# Altium footprint library CMod5_1.PcbLib: 117 footprints (part 3 of 8)
Each footprint in its own frame and in the unit in brackets; x right, y up, seen from the top. Pads: shape width x height; smd on the part's side, far side on the other; paste and mask are expansions set on the pad; w line width, h text height; cw(c..) or ccw(c..) is an arc to the next point about the centre after c.
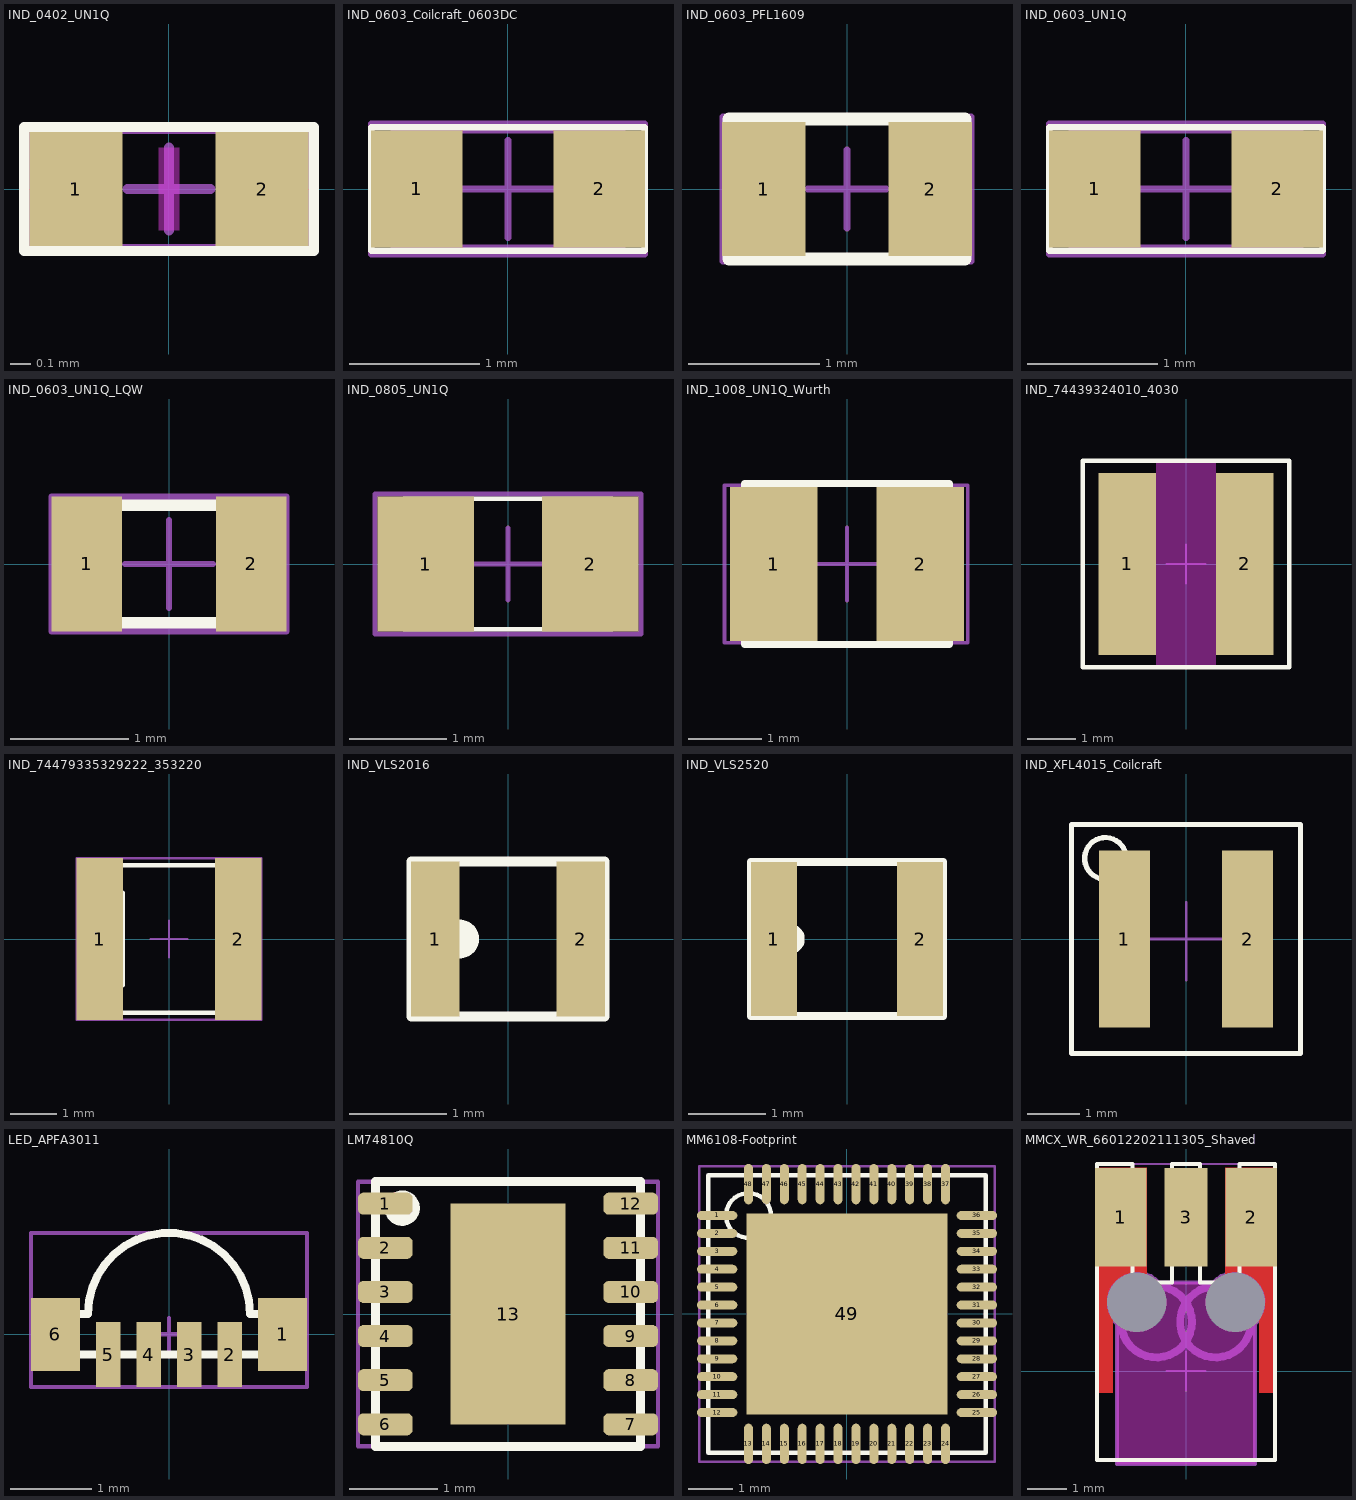
[diagram p2: the footprints below, top view; thin cyan lines are the x and y axes]

## IND_0402_UN1Q [mm] "Chip Resistor, 1.0x0.5mm"
height 0.4
pads (2):
  rect 0.45x0.55 smd paste+0 mask+0.05: 1(-0.45,0) 2(0.45,0)
Top Layer keep-out:
  rectangle: -0.05,-0.2 0.05,0.2
Top Overlay:
  lines w0.05: -0.7,-0.3 0.7,-0.3 0.7,0.3 -0.7,0.3 -0.7,-0.3
Top Courtyard:
  lines w0.02: -0.675,-0.275 -0.675,0.275 0.675,0.275 0.675,-0.275 -0.675,-0.275
  lines w0.05: -0.2,0 0.2,0 ; 0,-0.2 0,0.2
Top Designator:
3D body "AIMC-0402-3N9S-T.STEP": height 0.5, standoff 0, extent -0.5,-0.25 0.5,0.25

## IND_0603_Coilcraft_0603DC [mm] "Chip Inductor, 1.6x0.8mm"
height 0.9
pads (2):
  rect 0.7x0.9 smd mask+0.07: 1(-0.7,0) 2(0.7,0)
Top Overlay:
  lines w0.05: -1.05,-0.475 1.05,-0.475 1.05,0.475 -1.05,0.475 -1.05,-0.475
Top 3D Body:
  lines w0.1: -0.85,-0.475 0.85,-0.475 0.85,0.475 -0.85,0.475 -0.85,-0.475
Top Courtyard:
  lines w0.05: -0.375,0 0.375,0 ; 0,-0.375 0,0.375 ; -1.05,-0.5 1.05,-0.5 1.05,0.5 -1.05,0.5 -1.05,-0.5
Top Designator:
3D body "Coilcraft-0603DC.step": height 0.89, standoff 0, extent -0.81,-0.365 0.81,0.365

## IND_0603_PFL1609 [mm]
height 0.95
pads (2):
  rect 0.64x1.02 smd paste+0 mask+0.05: 1(-0.635,0) 2(0.635,0)
Top Overlay:
  lines w0.1: -0.9,-0.535 0.9,-0.535 0.9,0.535 -0.9,0.535 -0.9,-0.535
Top Courtyard:
  lines w0.05: -0.3,0 0.3,0 ; 0,-0.3 0,0.3 ; -0.95,-0.55 0.95,-0.55 0.95,0.55 -0.95,0.55 -0.95,-0.55
3D body "IND_PFL1609_COC.step": height 0.99, standoff 0, extent -0.902,-0.533 0.902,0.533

## IND_0603_UN1Q [mm] "Chip Inductor, 1.6x0.8mm"
height 0.8
pads (2):
  rect 0.7x0.9 smd mask+0.07: 1(-0.7,0) 2(0.7,0)
Top Overlay:
  lines w0.05: -1.05,-0.475 -1.05,0.475 1.05,0.475 1.05,-0.475 -1.05,-0.475
Top 3D Body:
  lines w0.1: -0.85,-0.475 -0.85,0.475 0.85,0.475 0.85,-0.475 -0.85,-0.475
Top Courtyard:
  lines w0.05: -0.375,0 0.375,0 ; 0,-0.375 0,0.375 ; -1.05,-0.5 -1.05,0.5 1.05,0.5 1.05,-0.5 -1.05,-0.5
Top Designator:
3D body: height 0.6, standoff 0, extent 0.581,-0.474 0.85,0.475
3D body: height 0.8, standoff 0, extent -1.05,-0.475 1.05,0.475
3D body: height 0.6, standoff 0, extent -0.849,-0.474 -0.58,0.475

## IND_0603_UN1Q_LQW [mm] "Chip Inductor, 1.65x0.99mm (1.75x1.09 max)"
height 1
pads (2):
  rect 0.6x1.15 smd mask+0.07: 1(-0.7,0) 2(0.7,0)
Top Overlay:
  lines w0.1: -0.825,-0.5 0.825,-0.5 0.825,0.5 -0.825,0.5 -0.825,-0.5
Top 3D Body:
  lines w0.1: -0.825,-0.5 0.825,-0.5 0.825,0.5 -0.825,0.5 -0.825,-0.5
Top Courtyard:
  lines w0.05: -0.375,0 0.375,0 ; 0,-0.375 0,0.375 ; -1,-0.575 1,-0.575 1,0.575 -1,0.575 -1,-0.575
Top Designator:
3D body: height 0.6, standoff 0, extent -0.849,-0.474 -0.58,0.475
3D body: height 1, standoff 0, extent -0.825,-0.5 0.825,0.5
3D body: height 0.6, standoff 0, extent 0.581,-0.474 0.85,0.475

## IND_0805_UN1Q [mm] "Chip Inductor, 2.10x1.35mm, IPC High Density"
height 1
pads (2):
  rect 1x1.4 smd paste+0 mask+0.05: 1(-0.85,0) 2(0.85,0)
Top Overlay:
  lines w0.05: -1.075,-0.675 1.075,-0.675 1.075,0.675 -1.075,0.675 -1.075,-0.675
Top Courtyard:
  lines w0.05: -0.375,0 0.375,0 ; 0,-0.375 0,0.375 ; -1.375,-0.725 1.375,-0.725 1.375,0.725 -1.375,0.725 -1.375,-0.725
Top Designator:
3D body "LQM21PN1R0NGRD.STEP": height 1.01, standoff 0.01, extent -1,-0.625 1,0.625

## IND_1008_UN1Q_Wurth [mm] "Chip Inductor, 1008"
height 1.2
pads (2):
  rect 1.2x2.1 smd mask+0.05: 1(-1,0) 2(1,0)
Top Overlay:
  lines w0.1: -1.4,-1.1 1.4,-1.1 1.4,1.1 -1.4,1.1 -1.4,-1.1
Top Courtyard:
  lines w0.05: -0.5,0 0.5,0 ; 0,-0.5 0,0.5 ; -1.675,-1.075 -1.675,1.075 1.65,1.075 1.65,-1.075 -1.675,-1.075
Top Designator:
3D body "WE-LQS_252012 (rev1).stp": height 1.21, standoff 0.01, extent -1.25,-1 1.25,1

## IND_74439324010_4030 [mm]
height 3
pads (2):
  rect 1.2x3.8 smd: 1(-1.225,0) 2(1.225,0)
Top Layer keep-out:
  region: -0.625,-2.15 -0.625,2.15 0.625,2.15 0.625,-2.15
Top Overlay:
  lines w0.1: -1.225,-1.7 -1.225,1.7 ; -2.15,-2.15 -2.15,2.15 2.15,2.15 2.15,-2.15 -2.15,-2.15
Top Courtyard:
  lines w0.05: -0.4,0 0.4,0 ; 0,-0.4 0,0.4 ; -2.15,-2.15 -2.15,2.15 2.15,2.15 2.15,-2.15 -2.15,-2.15
Top Designator:
3D body "74439390xxx_4030.stp": height 3.01, standoff 0.01, extent -2.15,-2.15 2.15,2.15

## IND_74479335329222_353220 [mm] "3.5 x 3.2 x 2.0mm"
height 2
pads (2):
  rect 1x3.5 smd paste+0 mask+0.05: 1(-1.5,0) 2(1.5,0)
Top Overlay:
  lines w0.1: -1,-1 -1,1 ; -1.75,-1.6 1.75,-1.6 1.75,1.6 -1.75,1.6 -1.75,-1.6
Top Courtyard:
  lines w0.05: -0.4,0 0.4,0 ; 0,-0.4 0,0.4 ; -2,-1.75 -2,1.75 2,1.75 2,-1.75 -2,-1.75
3D body "74479335329xxx_353220.stp": height 2, standoff 0, extent -1.75,-1.6 1.75,1.6
3D body: height 2.01, standoff 0, extent -1.05,-1 -0.95,1

## IND_VLS2016 [mm]
height 1.2
pads (2):
  rect 0.5x1.6 smd paste+0 mask+0.05: 1(-0.75,0) 2(0.75,0)
Top Overlay:
  circle w0.2: c-0.5,0 r0.1
  lines w0.1: -1,-0.8 1,-0.8 1,0.8 -1,0.8 -1,-0.8
Top Courtyard:
  lines w0.05: -1,-0.8 -1,0.8 1,0.8 1,-0.8 -1,-0.8
3D body "step_temp.STEP": height 1.2, standoff 0, extent -1,-0.8 1,0.8

## IND_VLS2520 [mm]
height 1.2
pads (2):
  rect 0.6x2 smd paste+0 mask+0.05: 1(-0.95,0) 2(0.95,0)
Top Overlay:
  circle w0.2: c-0.75,0 r0.1
  lines w0.1: -1.25,-1 -1.25,1 1.25,1 1.25,-1 -1.25,-1
Top Courtyard:
  lines w0.05: -1.25,-1 1.25,-1 1.25,1 -1.25,1 -1.25,-1
3D body "step_temp.STEP": height 1.2, standoff 0, extent -1.25,-1 1.25,1

## IND_XFL4015_Coilcraft [mm] "Power inductor, shielded, SMT"
height 1.6
pads (2):
  rect 0.98x3.4 smd paste+0 mask+0.05: 1(-1.185,0) 2(1.185,0)
Top Overlay:
  circle w0.1: c-1.55,1.55 r0.4
  lines w0.1: -2.2,-2.2 2.2,-2.2 2.2,2.2 -2.2,2.2 -2.2,-2.2
Top Courtyard:
  lines w0.05: -0.75,0 0.75,0 ; 0.003,-0.791 0.003,0.709 ; -2.2,-2.2 -2.2,2.2 2.2,2.2 2.2,-2.2 -2.2,-2.2
3D body "Coilcraft-XFL4015.step": height 1.5, standoff -0.1, extent -2.15,-2.15 2.15,2.15

## LED_APFA3011 [mm] "3.0x1.5mm SMD LED"
height 1
pads (6):
  rect 0.6x0.9 smd: 1(1.4,0) 6(-1.4,0)
  rect 0.3x0.8 smd: 2(0.75,-0.25) 3(0.25,-0.25) 4(-0.25,-0.25) 5(-0.75,-0.25)
Top Overlay:
  circle w0.1: c1.225,0 r0.05
  lines w0.1: 1.225,-0.05 ccw(c1.225,0) 1.275,0 ; -1.5,-0.25 1.5,-0.25 1.5,0.25 1,0.25 ccw(c0,0.25) -1,0.25 -1.5,0.25 -1.5,-0.25
Top Courtyard:
  lines w0.05: -0.2,0 0.2,0 ; 0,-0.2 0,0.2 ; -1.7,-0.65 -1.7,1.25 1.7,1.25 1.7,-0.65 -1.7,-0.65
Top Designator:
3D body "APFA3011.step": height 1, standoff 0, extent -1.501,-0.263 1.499,1.257

## LM74810Q [mm] "WSON12"
height 0.8
pads (13):
  rrect50% 0.62x0.25 smd paste+0 mask+0.05: 1(-1.39,1.25) 2(-1.39,0.75) 3(-1.39,0.25) 4(-1.39,-0.25) 5(-1.39,-0.75) 6(-1.39,-1.25) 7(1.39,-1.25) 8(1.39,-0.75) 9(1.39,-0.25) 10(1.39,0.25) 11(1.39,0.75) 12(1.39,1.25)
  rect 1.3x2.5 smd paste+0 mask+0.05: 13(0,0)
Top Overlay:
  circle w0.2: c-1.2,1.2 r0.1
  lines w0.1: -1.5,-1.5 1.5,-1.5 1.5,1.5 -1.5,1.5 -1.5,-1.5
Top Courtyard:
  lines w0.05: -1.7,-1.5 -1.7,1.5 1.7,1.5 1.7,-1.5 -1.7,-1.5
3D body "LM74810QDRRRQ1.stp": height 0.8, standoff 0, extent -1.5,-1.5 1.5,1.5
3D body: height 0.81, standoff 0.7, extent -1.4,1 -1,1.4

## MM6108-Footprint [mm] "QFN48, 6 x 6, Pitch 0.4 mm"
height 0.9
pads (49):
  oval 0.9x0.2 smd mask+0.05: 1(-2.9,2.2) 2(-2.9,1.8) 3(-2.9,1.4) 4(-2.9,1) 5(-2.9,0.6) 6(-2.9,0.2) 7(-2.9,-0.2) 8(-2.9,-0.6) 9(-2.9,-1) 10(-2.9,-1.4) 11(-2.9,-1.8) 12(-2.9,-2.2) 25(2.9,-2.2) 26(2.9,-1.8) 27(2.9,-1.4) 28(2.9,-1) 29(2.9,-0.6) 30(2.9,-0.2) 31(2.9,0.2) 32(2.9,0.6) 33(2.9,1) 34(2.9,1.4) 35(2.9,1.8) 36(2.9,2.2)
  oval 0.2x0.9 smd mask+0.05: 13(-2.2,-2.9) 14(-1.8,-2.9) 15(-1.4,-2.9) 16(-1,-2.9) 17(-0.6,-2.9) 18(-0.2,-2.9) 19(0.2,-2.9) 20(0.6,-2.9) 21(1,-2.9) 22(1.4,-2.9) 23(1.8,-2.9) 24(2.2,-2.9) 37(2.2,2.9) 38(1.8,2.9) 39(1.4,2.9) 40(1,2.9) 41(0.6,2.9) 42(0.2,2.9) 43(-0.2,2.9) 44(-0.6,2.9) 45(-1,2.9) 46(-1.4,2.9) 47(-1.8,2.9) 48(-2.2,2.9)
  rect 4.5x4.5 smd paste-10 mask+0.05: 49(0,0)
Top Overlay:
  circle w0.1: c-2.2,2.2 r0.5
  lines w0.1: -3.1,-3.1 3.1,-3.1 3.1,3.1 -3.1,3.1 -3.1,-3.1
Top Paste:
  region: 0.25,-0.25 0.25,-2.25 2.25,-2.25 2.25,-0.25
  region: -0.25,-0.25 -2.25,-0.25 -2.25,-2.25 -0.25,-2.25
  region: -0.25,0.25 -0.25,2.25 -2.25,2.25 -2.25,0.25
  rectangle: 0.25,0.25 2.25,2.25
Top Courtyard:
  lines w0.05: -0.5,0 0.5,0 ; 0,-0.5 0,0.5 ; -3.3,-3.3 3.3,-3.3 3.3,3.3 -3.3,3.3 -3.3,-3.3
3D body "QFN40P600X600X90_HS-49N2.step": height 0.9, standoff 0, extent -3.051,-3.051 3.051,3.051

## MMCX_WR_66012202111305_Shaved [mm] "MMCX PCB End Launch Jack"
height 3.5
pads (5):
  rect 1.3x2.5 smd paste+0 mask+0.102: 1(-1.65,3.9) 2(1.65,3.9)
  rect 1.1x2.5 smd paste+0 mask+0.05: 3(0,3.9)
  round 0 hole 1.5 unplated mask+0: H1(-1.25,1.75) H2(1.25,1.75)
Top Layer:
  region: -2.3,-0.55 -2.3,5.15 -1,5.15 -1,2.454 -1.115,2.485 -1.353,2.49 -1.58,2.42 -1.774,2.283 -1.915,2.091 -1.989,1.865 -1.989,1.628 -1.913,1.402 -1.85,1.301 -1.85,-0.55
  region: 2.3,-0.55 2.3,5.15 1,5.15 1,2.454 1.115,2.485 1.353,2.49 1.58,2.42 1.774,2.283 1.915,2.091 1.989,1.865 1.989,1.628 1.913,1.402 1.85,1.301 1.85,-0.55
Top Overlay:
  lines w0.1: -2.25,-2.25 -2.25,5.25 -1.35,5.25 -1.35,2.25 -0.35,2.25 -0.35,5.25 0.35,5.25 0.35,2.25 1.35,2.25 1.35,5.25 2.25,5.25 2.25,-2.25 -2.25,-2.25
Keep-Out Layer:
  board cut-out: -1.75,-2.35 1.75,-2.35 1.75,1.191 1.826,1.259 1.937,1.431 1.997,1.627 2.003,1.831 1.953,2.03 1.853,2.208 1.708,2.353 1.53,2.453 1.331,2.503 1.127,2.497 0.931,2.437 0.759,2.326 0.691,2.25 -0.699,2.25 -0.767,2.326 -0.938,2.435 -1.131,2.495 -1.334,2.501 -1.531,2.452 -1.708,2.353 -1.851,2.209 -1.951,2.033 -2,1.836 -1.995,1.633 -1.935,1.439 -1.826,1.268 -1.75,1.201
Mechanical 2:
  lines w0.1: -1.75,-2.35 1.75,-2.35 1.75,1.191 ccw(c1.25,1.75) 0.691,2.25 -0.691,2.25 ccw(c-1.25,1.75) -1.75,1.191 -1.75,-2.35
  text "2mm routing" at -1.75,-0.9 h0.3
  text "PCB Cutout" at -1.75,-0.3 h0.38
Mechanical 4:
  circle w0.2: c0.75,1.25 r0.9
  circle w0.2: c-0.75,1.25 r0.9
Mechanical 5:
  lines w0.01: 0.5,1.75 2,1.75 ; 1.25,1 1.25,2.5
Top Courtyard:
  lines w0.05: -0.5,0 0.5,0 ; 0,-0.5 0,0.5 ; -2.25,-2.25 2.25,-2.25 2.25,5.25 -2.25,5.25 -2.25,-2.25
3D body "66012202111305.stp": height 2.1, standoff -1.4, extent -2.25,-2.25 2.25,5.25